# Altium footprint library RADIAL_Test.PcbLib: 23 footprints (part 1 of 2)
Each footprint in its own frame and in the unit in brackets; x right, y up, seen from the top. Pads: shape width x height; smd on the part's side, far side on the other; paste and mask are expansions set on the pad; w line width, h text height; cw(c..) or ccw(c..) is an arc to the next point about the centre after c.
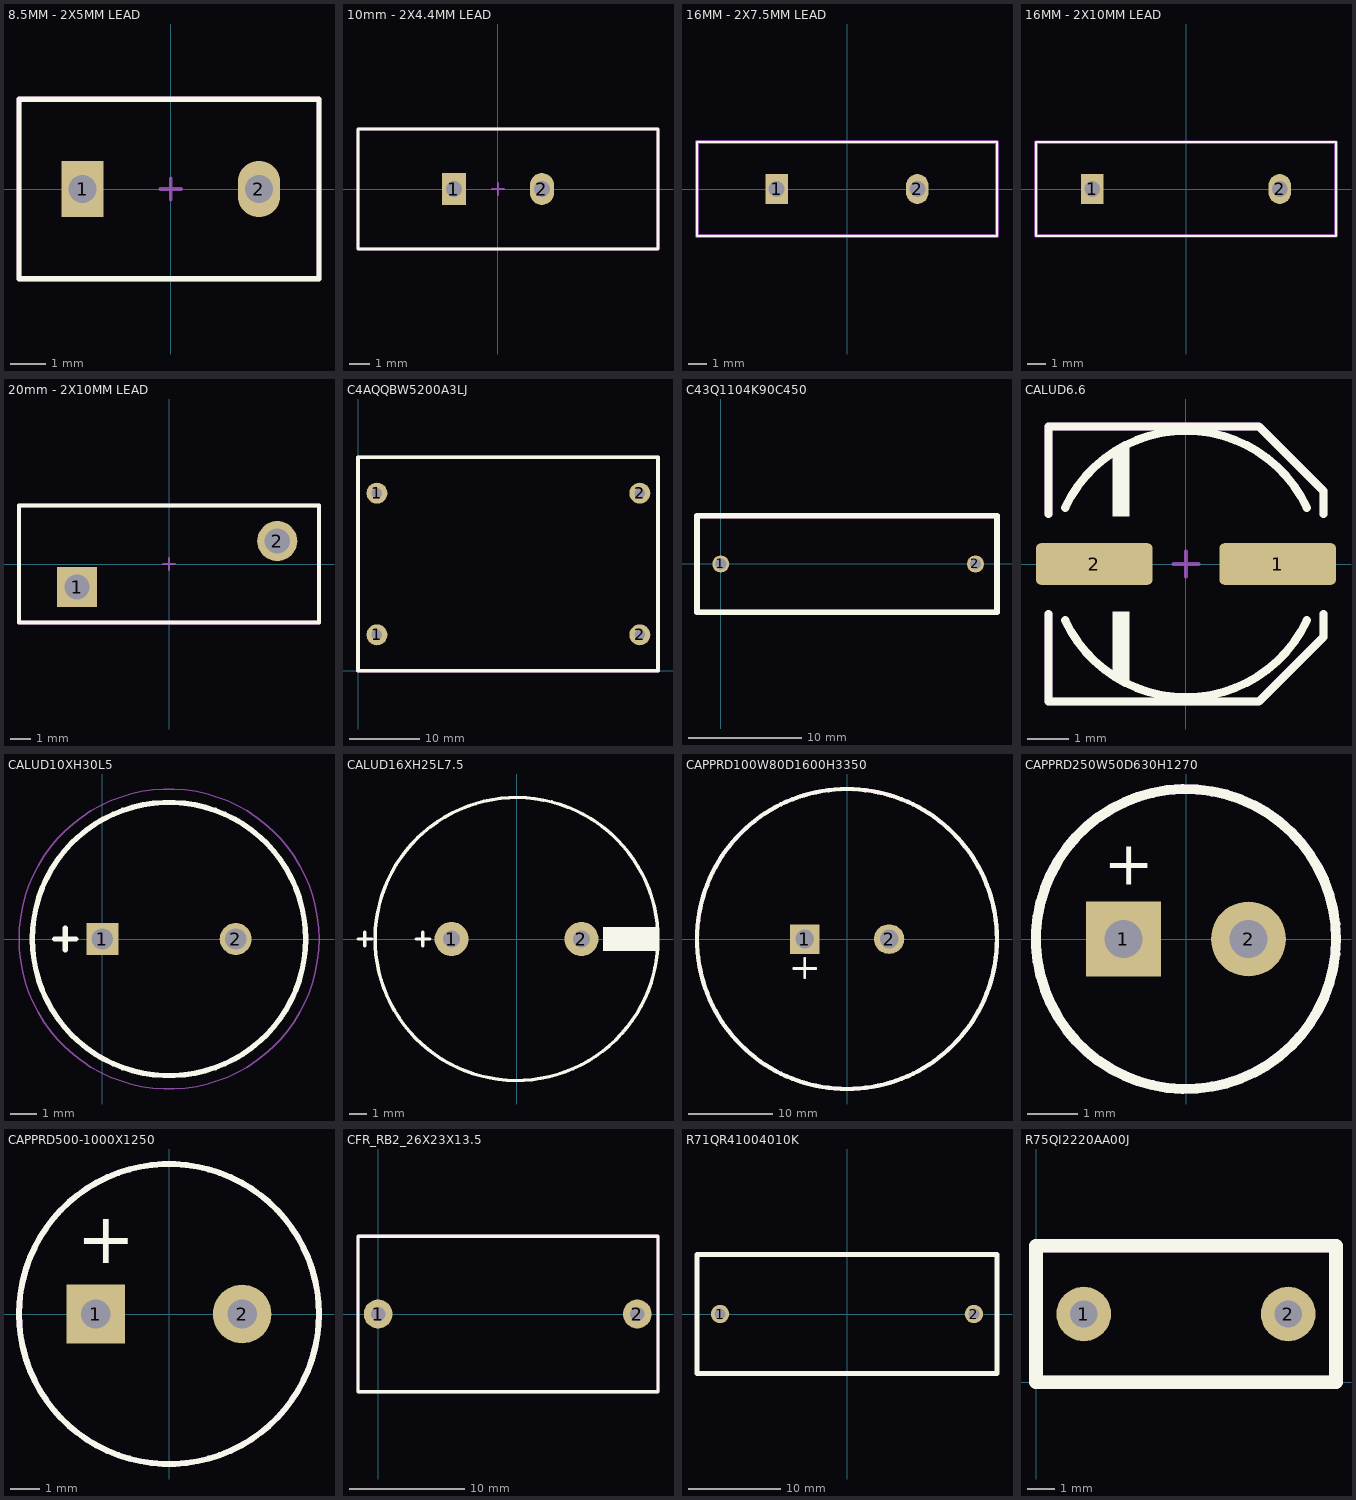
[diagram p0: the footprints below, top view; thin cyan lines are the x and y axes]

## 8.5MM - 2X5MM LEAD [mm]
pads (2):
  rect 1.2x1.6 hole 0.8 mask+0.05: 1(-2.5,0)
  oval 1.2x1.6 hole 0.8 mask+0.05: 2(2.5,0)
Top Overlay:
  lines w0.15: -4.3,-2.54 4.2,-2.54 4.2,2.54 -4.3,2.54 -4.3,-2.54
Mechanical 15:
  lines w0.1: -0.3,0 0.3,0 ; 0,-0.3 0,0.3
Mechanical 29:
  lines w0.15: -4.3,-2.54 -4.3,2.54 4.2,2.54 4.2,-2.54 -4.3,-2.54
  text "'.Designator'" at -2.092,-0.226 h1
3D body "CAP_F_8_5X5P_VIS.step": height 15, standoff -1.87, extent -4.305,-2.502 4.204,2.502

## 10mm - 2X4.4MM LEAD [mm]
pads (2):
  rect 1.2x1.6 hole 0.8 mask+0.05: 1(-2.2,0)
  oval 1.2x1.6 hole 0.8 mask+0.05: 2(2.2,0)
Top Overlay:
  lines w0.15: -6.985,-3 8.001,-3 8.001,3 -6.985,3 -6.985,-3
Mechanical 15:
  lines w0.1: -0.3,0 0.3,0 ; 0,-0.3 0,0.3
Mechanical 29:
  lines w0.15: -6.985,-3 -6.985,3 8.001,3 8.001,-3 -6.985,-3
  text "'.Designator'" at -2.417,-0.226 h1
3D body: height 15.5, standoff -2, extent 1.881,-0.3 2.519,0.339
3D body: height 15.5, standoff -2, extent -2.5,-0.3 -1.863,0.339
3D body: height 25, standoff 10, extent -7,-3 8,3

## 16MM - 2X7.5MM LEAD [mm]
pads (2):
  rect 1.2x1.6 hole 0.85 mask+0.05: 1(-3.75,0)
  oval 1.2x1.6 hole 0.85 mask+0.05: 2(3.75,0)
Top Overlay:
  lines w0.1: -8,-2.5 -8,2.5 8,2.5 8,-2.5 -8,-2.5
Mechanical 13:
  lines w0.2: -8,-2.5 -8,2.5 8,2.5 8,-2.5 -8,-2.5
Mechanical 29:
  lines w0.1: -8,-2.5 -8,2.5 8,2.5 8,-2.5 -8,-2.5
  text "'.Designator'" at -2.417,-0.226 h1
3D body "VY2103M63Y5UG63V7.stp": height 21.01, standoff -3.99, extent -8,-2.5 8,2.5

## 16MM - 2X10MM LEAD [mm]
pads (2):
  rect 1.2x1.6 hole 0.85 mask+0.05: 1(-5,0)
  oval 1.2x1.6 hole 0.85 mask+0.05: 2(5,0)
Top Overlay:
  lines w0.1: -8,-2.5 -8,2.5 8,2.5 8,-2.5 -8,-2.5
Mechanical 13:
  lines w0.2: -8,-2.5 -8,2.5 8,2.5 8,-2.5 -8,-2.5
Mechanical 29:
  lines w0.1: -8.001,-2.54 -8.001,2.54 8.001,2.54 8.001,-2.54 -8.001,-2.54
  text "'.Designator'" at -2.417,-0.226 h1
3D body "VY1472M63Y5UQ63V0.stp": height 21.01, standoff -3.99, extent -8,-2.5 8,2.5

## 20mm - 2X10MM LEAD [mm]
pads (2):
  rect 2x2 hole 1.25: 1(-4.593,-1.153)
  round 2 hole 1.25: 2(5.407,1.147)
Top Overlay:
  lines w0.2: -7.493,-2.921 -7.493,2.921 7.493,2.921 7.493,-2.921 -7.493,-2.921
Mechanical 13:
  lines w0.2: -7.493,-2.921 7.493,-2.921 7.493,2.921 -7.493,2.921 -7.493,-2.921
Mechanical 15:
  lines w0.1: -0.3,0 0.3,0 ; 0,-0.3 0,0.3
Mechanical 29:
  lines w0.2: -7.493,-2.921 7.493,-2.921 7.493,2.921 -7.493,2.921 -7.493,-2.921
  text "'.Designator'" at -2.417,-0.226 h1
3D body: height 15.5, standoff -2, extent 5.09,0.828 5.727,1.467
3D body: height 15.5, standoff -2, extent -4.91,-1.472 -4.273,-0.833
3D body: height 25, standoff 10, extent -7.5,-3 7.5,3

## C4AQQBW5200A3LJ [mm]
pads (4):
  round 3 hole 1.5: 1(2.7,5.1) 1(2.7,25.3) 2(40.2,5.1) 2(40.2,25.3)
Top Overlay:
  lines w0.5: 0,-0.05 42.8,-0.05 42.8,30.45 0,30.45 0,-0.05
Mechanical 29:
  lines w0.5: 0,-0.05 42.8,-0.05 42.8,30.45 0,30.45 0,-0.05
  text "'.Designator'" at 9.625,14.414 h5
3D body "C4AQQBW5200A3LJ.step": height 45.2, standoff -6, extent 0.125,0.098 42.725,30.502

## C43Q1104K90C450 [mm]
pads (2):
  round 1.5 hole 1: 1(0,0) 2(22.5,0)
Top Overlay:
  lines w0.5: -2.1,-4.25 -2.1,4.25 24.4,4.25 24.4,-4.25 -2.1,-4.25
Mechanical 29:
  lines w0.5: -2.1,-4.25 -2.1,4.25 24.4,4.25 24.4,-4.25 -2.1,-4.25
  text "'.Designator'" at 6,-0.424 h2
3D body "User Library-FILM_BLUE_P2250L2650W850H1700PD80.STEP": height 17, standoff -5, extent -2,-4.2 24.5,4.3

## CALUD6.6 [mm]
pads (2):
  rrect25% 2.8x1 smd mask+0.05: 1(2.2,0) 2(-2.2,0)
Top Overlay:
  region: -1.36,-1.143 -1.76,-1.143 -1.76,-2.8 -1.36,-2.8
  region: -1.36,2.8 -1.76,2.8 -1.76,1.143 -1.36,1.143
  lines w0.2: -3.3,-1.2 -3.3,-3.3 1.75,-3.3 3.3,-1.75 3.3,-1.2 ; -3.3,1.2 -3.3,3.3 1.75,3.3 3.3,1.75 3.3,1.2 ; -2.9,-1.352 ccw(c0,0) 2.9,-1.352 ; -2.9,1.352 cw(c0,0) 2.9,1.352
Mechanical 15:
  lines w0.1: -0.3,0 0.3,0 ; 0,-0.3 0,0.3
Mechanical 29:
  lines w0.2: -3.3,-1.2 -3.3,-3.3 1.75,-3.3 3.3,-1.75 3.3,-1.2 ; -3.3,1.2 -3.3,3.3 1.75,3.3 3.3,1.75 3.3,1.2
  text "'.Designator'" at -2.457,-0.317 h1.02
3D body "User Library-ALU-D8.STEP": height 7.7, standoff 0, extent -3.5,-3.3 3.5,3.3

## CALUD10XH30L5 [mm]
pads (2):
  rect 1.2x1.2 hole 0.8: 1(0,0)
  round 1.2 hole 0.8: 2(5,0)
Top Overlay:
  circle w0.2: c2.5,0 r5.125
  lines w0.2: -1.79,0 -0.99,0 ; -1.39,-0.4 -1.39,0.4
Mechanical 13:
  circle w0.1: c2.5,0 r5.125
Mechanical 15:
  circle w0.05: c2.5,0 r5.625
3D body "User Library-CapAluRadial_D100H300P50.step": height 30.01, standoff -2.99, extent -2.501,-4.998 7.5,4.999

## CALUD16XH25L7.5 [mm] "Cap Elec, D16.0X25.0H pitch: 7.6mm, RB.3/.6"
pads (2):
  round 2 hole 1: 1(-3.81,0) 2(3.81,0)
Top Overlay:
  rectangle: 5.07,-0.7 8.25,0.7
  lines w0.2: -9.3,0 -8.5,0 ; -8.9,-0.4 -8.9,0.4 ; -5.9,0 -5.1,0 ; -5.5,-0.4 -5.5,0.4 ; 8.148,-1.584 cw(c0,0) 8.152,-1.563
3D body "User Library-CE_R300_D650_H1000.step": height 25.4, standoff -3.5, extent -8.235,-8.239 8.25,8.239

## CAPPRD100W80D1600H3350 [mm]
pads (2):
  rect 3.5x3.5 hole 2.2: 1(-5,0)
  oval 3.6x3.5 hole 2.2: 2(5,0)
Top Overlay:
  circle w0.5: c-0.004,0.003 r17.8
  lines w0.3: -6.3,-3.5 -3.7,-3.5 ; -5,-4.6 -5,-2.3
Mechanical 29:
  circle w0.5: c0,0 r17.8
  lines w0.3: -6.3,-3.5 -3.7,-3.5 ; -5,-4.6 -5,-2.3
  text "'.Designator'" at -6.958,2.864 h3
3D body "ALA7DA471DE500.stp": height 50, standoff -7, extent -18,-17.988 18,18

## CAPPRD250W50D630H1270 [mm]
pads (2):
  rect 1.5x1.5 hole 0.75: 1(-1.25,0)
  round 1.5 hole 0.75: 2(1.25,0)
Top Overlay:
  circle w0.2: c0,0 r3
  text "+" at -1.65,0.795 h1.5
Mechanical 29:
  circle w0.2: c0,0 r3
  text "+" at -1.65,0.795 h1.5
  text "'.Designator'" at -1.134,-0.106 h0.5
3D body "CAPPRD250-630X1120.STEP": height 11.71, standoff -2.2, extent -3.15,-3.125 3.16,3.175

## CAPPRD500-1000X1250 [mm]
pads (2):
  rect 2x2 hole 1: 1(-2.5,0)
  round 2 hole 1: 2(2.5,0)
Top Overlay:
  circle w0.2: c0,0 r5.125
  text "+" at -3.15,1.15 h3
Mechanical 13:
  circle w0.1: c0,0 r5.125
Mechanical 29:
  circle w0.2: c0,0 r5.125
  text "'.Designator'" at -2.417,-0.212 h1
  text "+" at -3.15,1.15 h3
3D body "CAPPRD500-1000X1250.STEP": height 12.51, standoff -2.7, extent -4.976,-5.035 5.034,4.965

## CFR_RB2_26X23X13.5 [mm]
pads (2):
  round 2.5 / inner round 1.2 / far side round 1.5 hole 1.253: 1(0,0) 2(22.5,0)
Top Overlay:
  lines w0.3: -1.75,-6.75 24.3,-6.75 24.3,6.75 -1.75,6.75 -1.75,-6.75
Mechanical 29:
  lines w0.3: -1.75,-6.75 24.3,-6.75 24.3,6.75 -1.75,6.75 -1.75,-6.75
  text "'.Designator'" at 6.725,-0.399 h2
3D body "CFR_RB2_26X23X13.5_L26H23T13.5S22.5LL6F0.8.STEP": height 23, standoff -6, extent -1.8,-6.775 24.2,6.73

## R71QR41004010K [mm]
pads (2):
  round 2 hole 1.2: 1(-13.75,0) 2(13.75,0)
Top Overlay:
  lines w0.5: -16.25,-6.45 16.25,-6.45 16.25,6.45 -16.25,6.45 -16.25,-3 -16.25,-6.45
Mechanical 29:
  text "'.Designator'" at -7.258,-0.736 h3
3D body "R71QR41004010K.step": height 23.1, standoff -34, extent -16.15,-6.605 16.15,6.6

## R75QI2220AA00J [mm]
pads (2):
  round 2 hole 1: 1(1.75,2.5) 2(9.25,2.5)
Top Overlay:
  lines w0.5: 0,0 0,5 11,5 11,0 10,0 0,0
Mechanical 29:
  lines w0.5: 0,0 0,5 11,5 11,0 10,0 0,0
  text "'.Designator'" at 3.083,2.288 h1
3D body "phe450kk5100jr05.stp": height 8.75, standoff -4.25, extent 0.5,0.5 10.5,4.502